# Altium footprint library wisp.PcbLib: 62 footprints (part 2 of 4)
Each footprint in its own frame and in the unit in brackets; x right, y up, seen from the top. Pads: shape width x height; smd on the part's side, far side on the other; paste and mask are expansions set on the pad; w line width, h text height; cw(c..) or ccw(c..) is an arc to the next point about the centre after c.
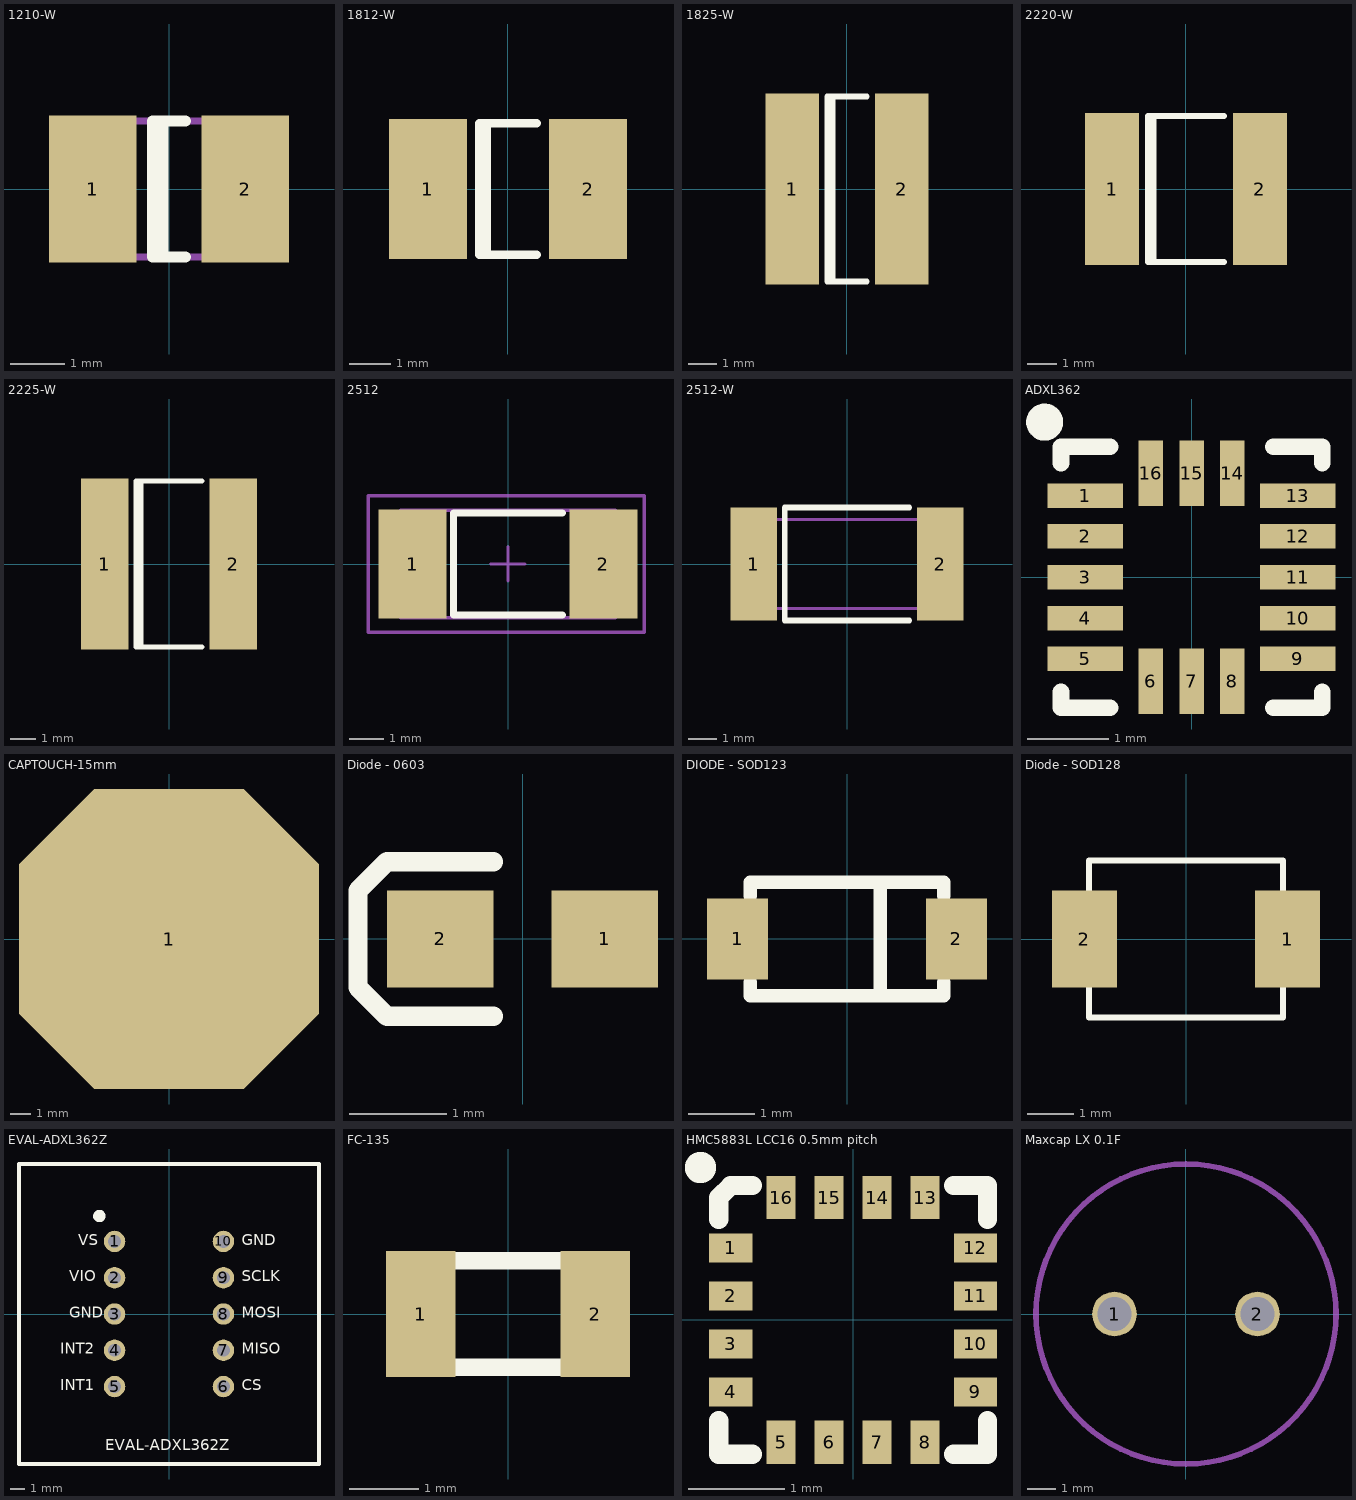
[diagram p1: the footprints below, top view; thin cyan lines are the x and y axes]

## 1210-W [mm] "Chip Capacitor; Body 3.2 x 2.5 mm (LxW typ)"
height 1.7
pads (2):
  rect 1.6x2.7 smd: 1(-1.4,0) 2(1.4,0)
Top Overlay:
  lines w0.2: -0.11,-1.25 -0.11,1.25 ; 0.3,-1.25 -0.3,-1.25 -0.3,1.25 0.3,1.25
Mechanical 13:
  lines w0.127: -1.6,-1.25 1.6,-1.25 1.6,1.25 -1.6,1.25 -1.6,-1.25
3D body: height 2.5, standoff 0, extent -1.6,-1.25 1.6,1.25

## 1812-W [mm] "Chip Capacitor; Body 4.5 x 3.2 mm (LxW typ)"
height 1.7
pads (2):
  rect 1.9x3.4 smd: 1(-1.95,0) 2(1.95,0)
Top Overlay:
  lines w0.2: -0.51,-1.6 -0.51,1.6 ; 0.7,-1.6 -0.7,-1.6 -0.7,1.6 0.7,1.6

## 1825-W [mm] "Chip Capacitor; Body 4.5 x 6.4 mm (LxW typ)"
height 1.7
pads (2):
  rect 1.9x6.8 smd: 1(-1.95,0) 2(1.95,0)
Top Overlay:
  lines w0.2: -0.51,-3.3 -0.51,3.3 ; 0.7,-3.3 -0.7,-3.3 -0.7,3.3 0.7,3.3

## 2220-W [mm] "Chip Capacitor; Body 5.7 x 5.0 mm (LxW typ)"
height 1.8
pads (2):
  rect 1.85x5.2 smd: 1(-2.525,0) 2(2.525,0)
Top Overlay:
  lines w0.2: -1.11,-2.5 -1.11,2.5 ; 1.3,-2.5 -1.3,-2.5 -1.3,2.5 1.3,2.5

## 2225-W [mm] "Chip Capacitor; Body 5.6 x 6.4 mm (LxW typ)"
height 2
pads (2):
  rect 1.9x6.8 smd: 1(-2.55,0) 2(2.55,0)
Top Overlay:
  lines w0.2: -1.11,-3.3 -1.11,3.3 ; 1.3,-3.3 -1.3,-3.3 -1.3,3.3 1.3,3.3

## 2512 [mm] "Chip Capacitor, Body 2.54x1.27mm, IPC Low Density"
height 0.6
pads (2):
  rect 2x3.2 smd: 1(-2.8,0) 2(2.8,0)
Top Overlay:
  lines w0.2: 1.6,-1.5 -1.6,-1.5 -1.6,1.5 1.6,1.5
Mechanical 13:
  lines w0.1: -3.15,-1.575 -3.15,1.575 3.15,1.575 3.15,-1.575 -3.15,-1.575
Mechanical 15:
  lines w0.1: -0.5,0 0.5,0 ; 0,-0.5 0,0.5 ; -4.1,-2 -4.1,2 4,2 4,-2 -4.1,-2
3D body: height 0.6, standoff 0, extent -3.15,-1.575 3.15,1.575

## 2512-W [mil]
height 82.68
pads (2):
  rect 65x158 smd: 1(-130,0) 2(130,0)
Top Overlay:
  lines w7.87: 86.54,-78.74 -86.69,-78.74 -86.69,78.74 86.54,78.74
Mechanical 13:
  lines w3.94: -124.01,-62 124.02,-62 124.02,62.01 -124.01,62.01 -124.01,-62
3D body: height 23.62, standoff 0, extent -124.01,-62 124.02,62.01

## ADXL362 [mm]
pads (16):
  rect 0.925x0.3 smd: 1(-1.3,1) 2(-1.3,0.5) 3(-1.3,0) 4(-1.3,-0.5) 5(-1.3,-1) 9(1.3,-1) 10(1.3,-0.5) 11(1.3,0) 12(1.3,0.5) 13(1.3,1)
  rect 0.3x0.8 smd: 6(-0.5,-1.275) 7(0,-1.275) 8(0.5,-1.275) 14(0.5,1.275) 15(0,1.275) 16(-0.5,1.275)
Top Overlay:
  circle w0.254: c-1.8,1.9 r0.1
  lines w0.203: -1.6,-1.4 -1.6,-1.6 -1,-1.6 ; -1.6,1.4 -1.6,1.6 -1,1.6 ; 1,-1.6 1.6,-1.6 1.6,-1.4 ; 1,1.6 1.6,1.6 1.6,1.4
Mechanical 13:
  text ".Designator" at -0.6,-0.075 h0.38
3D body: height 1.14, standoff 0, extent -1.5,-1.5 1.5,1.5

## CAPTOUCH-15mm [mm]
pads (1):
  oct 15x15 smd: 1(0,0)

## Diode - 0603 [mm] "Diode: Body 1.6 x 0.8 mm (LxW typ)"
height 0.87
pads (2):
  rect 1.1x1 smd: 1(0.85,0) 2(-0.85,0)
Top Overlay:
  lines w0.2: -0.3,-0.8 -1.4,-0.8 -1.7,-0.5 -1.7,0.4 -1.7,0.5 -1.4,0.8 -0.3,0.8

## DIODE - SOD123 [mil] "SOD-123; 2 Leads; Body 2.7 x 1.6 mm, (LxW)"
height 53.15
pads (2):
  rect 36x48 smd: 1(-64.5,0) 2(64.5,0)
Top Overlay:
  lines w7.87: -57.09,-25.59 -57.09,-33.46 57.09,-33.46 57.09,-25.59 ; -57.09,25.59 -57.09,33.46 57.09,33.46 57.09,25.59 ; 19.68,-33.46 19.68,33.46
3D body: height 90.55, standoff 0, extent -57.09,-33.46 57.09,33.46

## Diode - SOD128 [mm] "Diode: Body 1.6 x 0.8 mm (LxW typ)"
height 0.87
pads (2):
  rect 1.4x2.1 smd: 1(2.2,0) 2(-2.2,0)
Top Overlay:
  lines w0.127: -2.1,-1.7 2.1,-1.7 2.1,1.7 -2.1,1.7 -2.1,-1.7
3D body: height 1.11, standoff 0, extent -2.6,-1.35 2.6,1.35

## EVAL-ADXL362Z [mm]
pads (10):
  round 1.5 hole 0.9: 1(-3.81,5.08) 2(-3.81,2.54) 3(-3.81,0) 4(-3.81,-2.54) 5(-3.81,-5.08) 6(3.81,-5.08) 7(3.81,-2.54) 8(3.81,0) 9(3.81,2.54) 10(3.81,5.08)
Top Overlay:
  circle w0.508: c-4.879,6.858 r0.18
  lines w0.254: -10.5,-10.5 10.5,-10.5 10.5,10.5 -10.5,10.5 -10.5,-10.5
  text "EVAL-ADXL362Z" at -4.445,-9.525 h0.76
  text "VS" at -6.35,4.826 h0.76
  text "VIO" at -6.985,2.286 h0.76
  text "GND" at -6.985,-0.254 h0.76
  text "INT2" at -7.62,-2.794 h0.76
  text "INT1" at -7.62,-5.334 h0.76
  text "CS" at 5.08,-5.334 h0.76
  text "MISO" at 5.08,-2.794 h0.76
  text "MOSI" at 5.08,-0.254 h0.76
  text "SCLK" at 5.08,2.286 h0.76
  text "GND" at 5.08,4.826 h0.76

## FC-135 [mm] "FC-135   crystal - epson eletronics"
height 0.8
pads (2):
  rect 1x1.8 smd: 1(-1.25,0) 2(1.25,0)
Top Overlay:
  lines w0.254: -0.762,-0.762 0.762,-0.762 ; -0.762,0.762 0.762,0.762

## HMC5883L LCC16 0.5mm pitch [mm]
pads (16):
  rect 0.45x0.3 smd: 1(-1.275,0.75) 2(-1.275,0.25) 3(-1.275,-0.25) 4(-1.275,-0.75) 9(1.275,-0.75) 10(1.275,-0.25) 11(1.275,0.25) 12(1.275,0.75)
  rect 0.3x0.45 smd: 5(-0.75,-1.275) 6(-0.25,-1.275) 7(0.25,-1.275) 8(0.75,-1.275) 13(0.75,1.275) 14(0.25,1.275) 15(-0.25,1.275) 16(-0.75,1.275)
Top Overlay:
  circle w0.254: c-1.59,1.588 r0.036
  lines w0.2: -1.4,-1.05 -1.4,-1.4 -1.05,-1.4 ; -1.4,1.05 -1.4,1.275 -1.275,1.4 -1.05,1.4 ; 1.05,-1.4 1.4,-1.4 1.4,-1.05 ; 1.05,1.4 1.4,1.4 1.4,1.05

## Maxcap LX 0.1F [mm] "Maxcap LX Series, 0.1F, Diameter  11mm, Leads 5.1mm"
height 6.5
pads (2):
  round 1.6 hole 1.2: 1(-2.55,0) 2(2.55,0)
Mechanical 1:
  circle w0.2: c0,0 r5.35